# Altium integrated library Micron Memory DDR3 SDRAM.IntLib: 123 symbols (part 22 of 37)
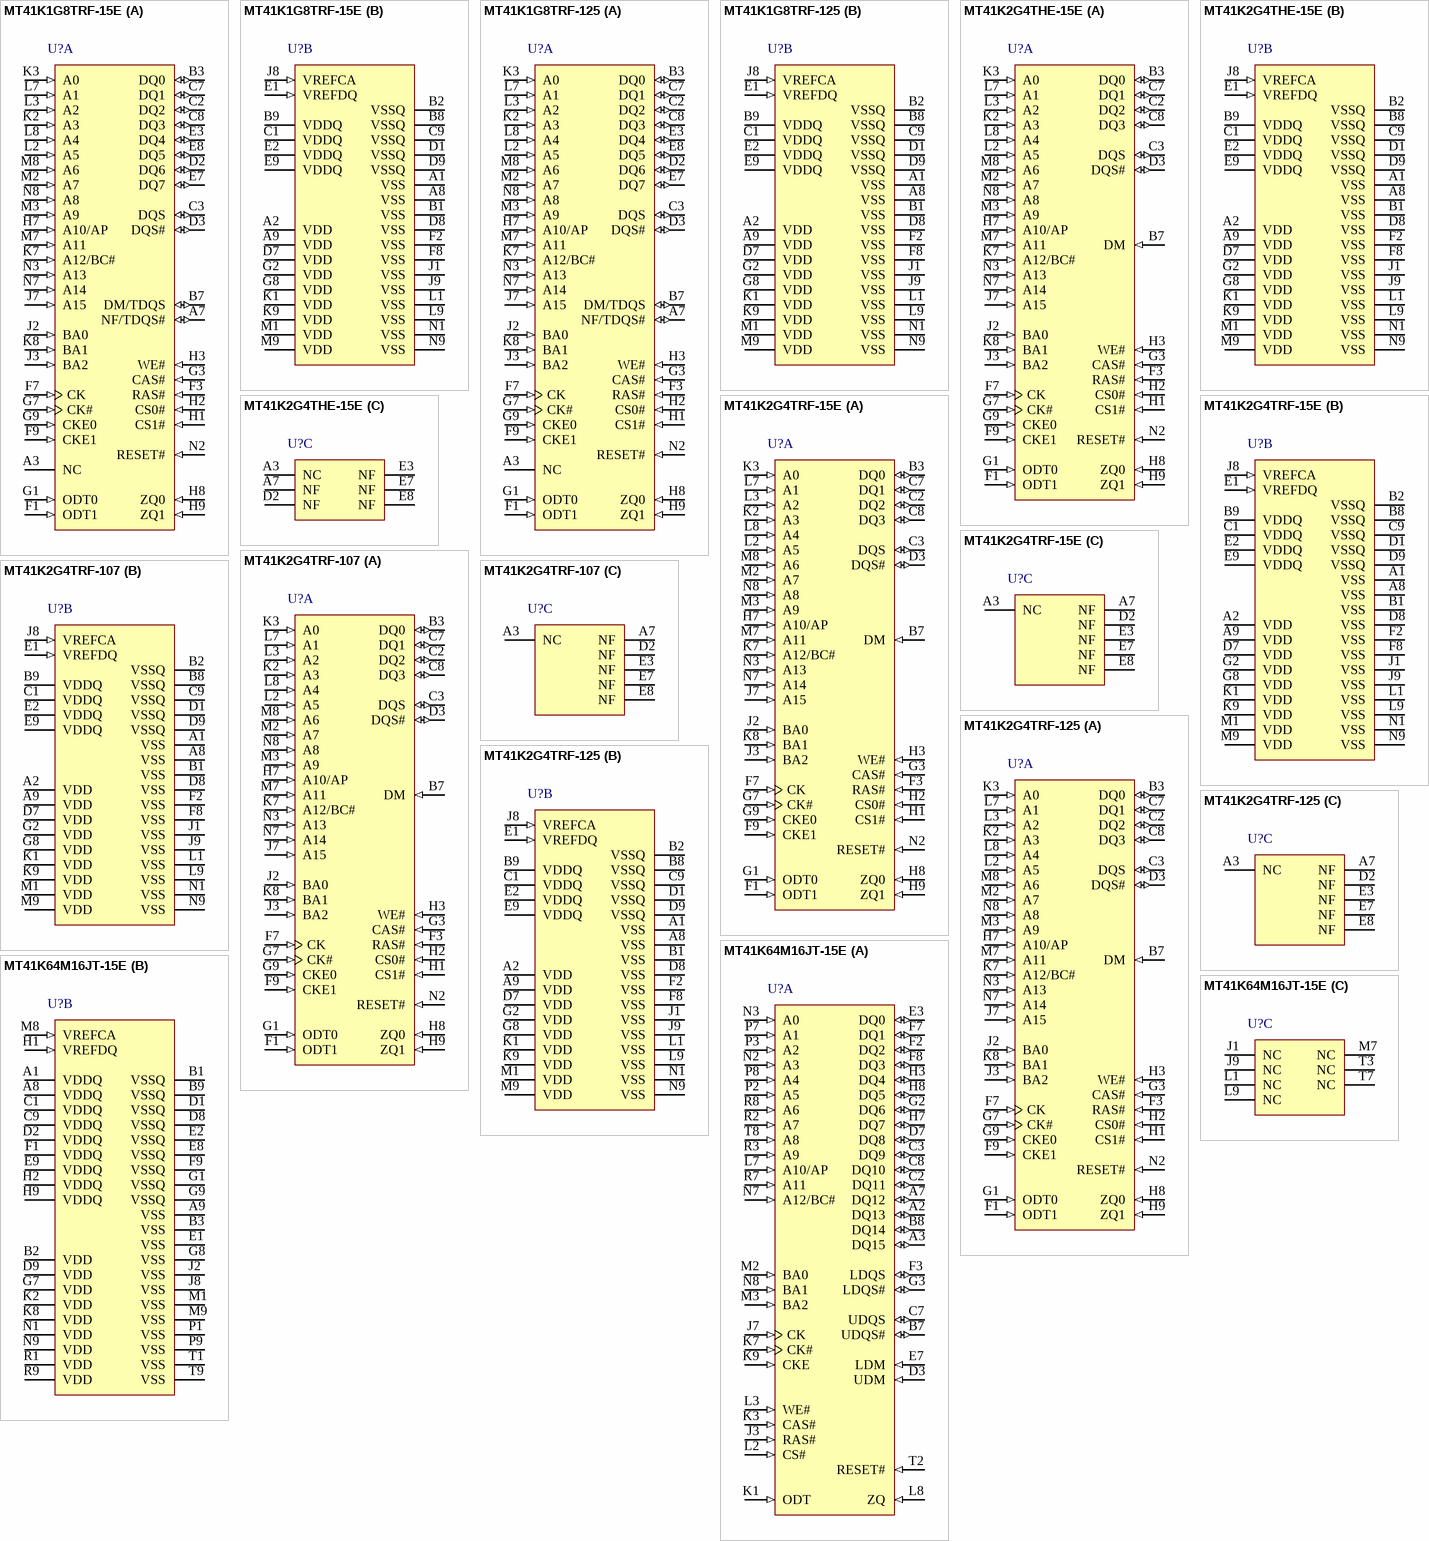
[diagram p39: symbols MT41K1G8TRF-15E to MT41K64M16JT-15E]

## MT41K2G4TRF-107
designator U?
8Gb DDR3-1866 SDRAM, 2Gb x 4, 1.071ns, 1.35V, 0 to 95 degC, 78-Ball FBGA, Pb-Free; Manufacturer: Micron; PartNumber: MT41K2G4TRF-107; CL: CL = 13; Clock Rate: 933 MHz; Op. Temp.: 0C to +95C; DatasheetVersion: Rev.B; PackageVersion: Rev.E; PackageReference: MICT-TRF-78; PackageDescription: 78-Ball Fine-Pitch Ball Grid Array, 11.5 x 9.5 mm, Pitch 0.8 mm; Cycle Time: 1.071ns; Data Rate: DDR3-1866; Density: 8Gb; Depth: 2Gb; Package: FBGA; Pin Count: 78-ball; RoHS: Yes; Voltage: 1.35V; Width: x4; Mounting Technology: Surface Mount; ComponentLink1Description: Manufacturer URL; ComponentLink1URL: http://www.micron.com/; ComponentLink2Description: Datasheet; ComponentLink2URL: http://www.micron.com/~/media/Documents/Products/Data%20Sheet/DRAM/DDR3L_8Gb_x4_x8_2CS_TwinDie_V70S_V80A.pdf; ComponentLink3Description: Package Specification; ComponentLink3URL: http://www.micron.com/~/media/Documents/Products/Data%20Sheet/DRAM/DDR3L_8Gb_x4_x8_2CS_TwinDie_V70S_V80A.pdf
footprint MICT-TRF-78 (BGA, 78-Balls, Body 11.5x9.5mm, Pitch 0.8mm)
part A pins: B3 DQ0 (io) "Data input/output: Bidirectional data bus for x4 configuration. DQ[3:0] are referenced to VREFDQ.", B7 DM (in) "Input data mask: DM is an input mask signal for write data. Input data is masked when DM is sampled HIGH, along with the input data, during a write access. Although the DM ball is input-only, the DM loading is designed to (See Datasheet)", C2 DQ2 (io) "Data input/output: Bidirectional data bus for x4 configuration. DQ[3:0] are referenced to VREFDQ.", C3 DQS (io) "Data strobe: DQS and DQS# are differential data strobes: Output with read data; edge aligned with read data; input with write data; center-aligned with write data.", C7 DQ1 (io) "Data input/output: Bidirectional data bus for x4 configuration. DQ[3:0] are referenced to VREFDQ.", C8 DQ3 (io) "Data input/output: Bidirectional data bus for x4 configuration. DQ[3:0] are referenced to VREFDQ.", D3 DQS# (io) "Data strobe: DQS and DQS# are differential data strobes: Output with read data; edge aligned with read data; input with write data; center-aligned with write data.", F1 ODT1 (in) "On-die termination: ODT enables (registered HIGH) and disables (registered LOW) termination resistance internal to the DDR3L SDRAM. When enabled in normal operation,ODT is only applied to each of the following balls: (See Datasheet)", F3 RAS# (in) "Command inputs: RAS#, CAS#, and WE# (along with CS#) define the command being entered and are referenced to VREFCA.", F7 CK (in) "Clock: CK and CK# are differential clock inputs. All command, address, and control input signals are sampled on the crossing of the positive edge of CK and the negative edge of CK#. Output data strobe (DQS, DQS#) is (See Datasheet)", F9 CKE1 (in) "Clock enable: CKE enables (registered HIGH) and disables (registered LOW) internal circuitry and clocks on the DRAM. The specific circuitry that is enabled/disabled is dependent upon the DDR3L SDRAM configuration and (See Datasheet)", G1 ODT0 (in) "On-die termination: ODT enables (registered HIGH) and disables (registered LOW) termination resistance internal to the DDR3L SDRAM. When enabled in normal operation,ODT is only applied to each of the following balls: (See Datasheet)", G3 CAS# (in) "Command inputs: RAS#, CAS#, and WE# (along with CS#) define the command being entered and are referenced to VREFCA.", G7 CK# (in) "Clock: CK and CK# are differential clock inputs. All command, address, and control input signals are sampled on the crossing of the positive edge of CK and the negative edge of CK#. Output data strobe (DQS, DQS#) is (See Datasheet)", G9 CKE0 (in) "Clock enable: CKE enables (registered HIGH) and disables (registered LOW) internal circuitry and clocks on the DRAM. The specific circuitry that is enabled/disabled is dependent upon the DDR3L SDRAM configuration and (See Datasheet)", H1 CS1# (in) "Chip select: CS# enables (registered LOW) and disables (registered HIGH) the command decoder. All commands are masked when CS# is registered HIGH. CS# provides for external rank selection on systems with multiple ranks. CS# (See Datasheet)", H2 CS0# (in) "Chip select: CS# enables (registered LOW) and disables (registered HIGH) the command decoder. All commands are masked when CS# is registered HIGH. CS# provides for external rank selection on systems with multiple ranks. CS# (See Datasheet)", H3 WE# (in) "Command inputs: RAS#, CAS#, and WE# (along with CS#) define the command being entered and are referenced to VREFCA.", H7 A10/AP (in) "Address inputs: Provide the row address for ACTIVATE commands, and the column address and auto precharge bit (A10) for READ/WRITE commands, to select one location out of the memory array in the respective bank. A10 sampled (See Datasheet)", H8 ZQ0 (in) "External reference ball for output drive calibration: This ball is tied to an external 240ohm resistor (RZQ), which is tied to VSSQ.", H9 ZQ1 (in) "External reference ball for output drive calibration: This ball is tied to an external 240ohm resistor (RZQ), which is tied to VSSQ.", J2 BA0 (in) "Bank address inputs: BA[2:0] define the bank to which an ACTIVATE, READ, WRITE, or PRECHARGE command is being applied. BA[2:0] define which mode register (MR0, MR1,MR2, or MR3) is loaded during the LOAD MODE command. BA[2:0] (See Datasheet)", J3 BA2 (in) "Bank address inputs: BA[2:0] define the bank to which an ACTIVATE, READ, WRITE, or PRECHARGE command is being applied. BA[2:0] define which mode register (MR0, MR1,MR2, or MR3) is loaded during the LOAD MODE command. BA[2:0] (See Datasheet)", J7 A15 (in) "Address inputs: Provide the row address for ACTIVATE commands, and the column address and auto precharge bit (A10) for READ/WRITE commands, to select one location out of the memory array in the respective bank. A10 sampled (See Datasheet)", K2 A3 (in) "Address inputs: Provide the row address for ACTIVATE commands, and the column address and auto precharge bit (A10) for READ/WRITE commands, to select one location out of the memory array in the respective bank. A10 sampled (See Datasheet)", K3 A0 (in) "Address inputs: Provide the row address for ACTIVATE commands, and the column address and auto precharge bit (A10) for READ/WRITE commands, to select one location out of the memory array in the respective bank. A10 sampled (See Datasheet)", K7 A12/BC# (in) "Address inputs: Provide the row address for ACTIVATE commands, and the column address and auto precharge bit (A10) for READ/WRITE commands, to select one location out of the memory array in the respective bank. A10 sampled (See Datasheet)", K8 BA1 (in) "Bank address inputs: BA[2:0] define the bank to which an ACTIVATE, READ, WRITE, or PRECHARGE command is being applied. BA[2:0] define which mode register (MR0, MR1,MR2, or MR3) is loaded during the LOAD MODE command. BA[2:0] (See Datasheet)", L2 A5 (in) "Address inputs: Provide the row address for ACTIVATE commands, and the column address and auto precharge bit (A10) for READ/WRITE commands, to select one location out of the memory array in the respective bank. A10 sampled (See Datasheet)", L3 A2 (in) "Address inputs: Provide the row address for ACTIVATE commands, and the column address and auto precharge bit (A10) for READ/WRITE commands, to select one location out of the memory array in the respective bank. A10 sampled (See Datasheet)", L7 A1 (in) "Address inputs: Provide the row address for ACTIVATE commands, and the column address and auto precharge bit (A10) for READ/WRITE commands, to select one location out of the memory array in the respective bank. A10 sampled (See Datasheet)", L8 A4 (in) "Address inputs: Provide the row address for ACTIVATE commands, and the column address and auto precharge bit (A10) for READ/WRITE commands, to select one location out of the memory array in the respective bank. A10 sampled (See Datasheet)", M2 A7 (in) "Address inputs: Provide the row address for ACTIVATE commands, and the column address and auto precharge bit (A10) for READ/WRITE commands, to select one location out of the memory array in the respective bank. A10 sampled (See Datasheet)", M3 A9 (in) "Address inputs: Provide the row address for ACTIVATE commands, and the column address and auto precharge bit (A10) for READ/WRITE commands, to select one location out of the memory array in the respective bank. A10 sampled (See Datasheet)", M7 A11 (in) "Address inputs: Provide the row address for ACTIVATE commands, and the column address and auto precharge bit (A10) for READ/WRITE commands, to select one location out of the memory array in the respective bank. A10 sampled (See Datasheet)", M8 A6 (in) "Address inputs: Provide the row address for ACTIVATE commands, and the column address and auto precharge bit (A10) for READ/WRITE commands, to select one location out of the memory array in the respective bank. A10 sampled (See Datasheet)", N2 RESET# (in) "Reset: RESET# is an active LOW CMOS input referenced to VSS. The RESET# input receiver is a CMOS input defined as a rail-to-rail signal with DC HIGH >= 0.8 x VDDQ and DC LOW =<0.2 x VDDQ. RESET# assertion and desertion are (See Datasheet)", N3 A13 (in) "Address inputs: Provide the row address for ACTIVATE commands, and the column address and auto precharge bit (A10) for READ/WRITE commands, to select one location out of the memory array in the respective bank. A10 sampled (See Datasheet)", N7 A14 (in) "Address inputs: Provide the row address for ACTIVATE commands, and the column address and auto precharge bit (A10) for READ/WRITE commands, to select one location out of the memory array in the respective bank. A10 sampled (See Datasheet)", N8 A8 (in) "Address inputs: Provide the row address for ACTIVATE commands, and the column address and auto precharge bit (A10) for READ/WRITE commands, to select one location out of the memory array in the respective bank. A10 sampled (See Datasheet)"
part B pins: A1 VSS (power) "Ground.", A2 VDD (power) "Power supply: 1.35V (1.283V to 1.45V operational; compatible with 1.5V operation)", A8 VSS (power) "Ground.", A9 VDD (power) "Power supply: 1.35V (1.283V to 1.45V operational; compatible with 1.5V operation)", B1 VSS (power) "Ground.", B2 VSSQ (power) "DQ ground: Isolated on the device for improved noise immunity.", B8 VSSQ (power) "DQ ground: Isolated on the device for improved noise immunity.", B9 VDDQ (power) "DQ power supply: 1.35V (1.283V to 1.45V operational; compatible with 1.5V operation).Isolated on the device for improved noise immunity.", C1 VDDQ (power) "DQ power supply: 1.35V (1.283V to 1.45V operational; compatible with 1.5V operation).Isolated on the device for improved noise immunity.", C9 VSSQ (power) "DQ ground: Isolated on the device for improved noise immunity.", D1 VSSQ (power) "DQ ground: Isolated on the device for improved noise immunity.", D7 VDD (power) "Power supply: 1.35V (1.283V to 1.45V operational; compatible with 1.5V operation)", D8 VSS (power) "Ground.", D9 VSSQ (power) "DQ ground: Isolated on the device for improved noise immunity.", E1 VREFDQ (in) "Reference voltage for data: VREFDQ must be maintained at all times (including self refresh) for proper device operation.", E2 VDDQ (power) "DQ power supply: 1.35V (1.283V to 1.45V operational; compatible with 1.5V operation).Isolated on the device for improved noise immunity.", E9 VDDQ (power) "DQ power supply: 1.35V (1.283V to 1.45V operational; compatible with 1.5V operation).Isolated on the device for improved noise immunity.", F2 VSS (power) "Ground.", F8 VSS (power) "Ground.", G2 VDD (power) "Power supply: 1.35V (1.283V to 1.45V operational; compatible with 1.5V operation)", G8 VDD (power) "Power supply: 1.35V (1.283V to 1.45V operational; compatible with 1.5V operation)", J1 VSS (power) "Ground.", J8 VREFCA (in) "Reference voltage for control, command, and address: VREFCA must be maintained at all times (including self refresh) for proper device operation.", J9 VSS (power) "Ground.", K1 VDD (power) "Power supply: 1.35V (1.283V to 1.45V operational; compatible with 1.5V operation)", K9 VDD (power) "Power supply: 1.35V (1.283V to 1.45V operational; compatible with 1.5V operation)", L1 VSS (power) "Ground.", L9 VSS (power) "Ground.", M1 VDD (power) "Power supply: 1.35V (1.283V to 1.45V operational; compatible with 1.5V operation)", M9 VDD (power) "Power supply: 1.35V (1.283V to 1.45V operational; compatible with 1.5V operation)", N1 VSS (power) "Ground.", N9 VSS (power) "Ground."
part C pins: A3 NC "No connect: These balls should be left unconnected (the ball has no connection to the DRAM or to other balls).", A7 NF "No function: When configured as a x4 device, these balls are NF. When configured as a x8 device, these balls are defined as TDQS#, DQ[7:4].", D2 NF "No function: When configured as a x4 device, these balls are NF. When configured as a x8 device, these balls are defined as TDQS#, DQ[7:4].", E3 NF "No function: When configured as a x4 device, these balls are NF. When configured as a x8 device, these balls are defined as TDQS#, DQ[7:4].", E7 NF "No function: When configured as a x4 device, these balls are NF. When configured as a x8 device, these balls are defined as TDQS#, DQ[7:4].", E8 NF "No function: When configured as a x4 device, these balls are NF. When configured as a x8 device, these balls are defined as TDQS#, DQ[7:4]."

## MT41K2G4TRF-125
designator U?
8Gb DDR3-1600 SDRAM, 2Gb x 4, 1.25ns, 1.35V, 0 to 95 degC, 78-Ball FBGA, Pb-Free; Manufacturer: Micron; PartNumber: MT41K2G4TRF-125; CL: CL = 11; Clock Rate: 800 MHz; Op. Temp.: 0C to +95C; DatasheetVersion: Rev.B; PackageVersion: Rev.E; PackageReference: MICT-TRF-78; PackageDescription: 78-Ball Fine-Pitch Ball Grid Array, 11.5 x 9.5 mm, Pitch 0.8 mm; Cycle Time: 1.25ns; Data Rate: DDR3-1600; Density: 8Gb; Depth: 2Gb; Package: FBGA; Pin Count: 78-ball; RoHS: Yes; Voltage: 1.35V; Width: x4; Mounting Technology: Surface Mount; ComponentLink1Description: Manufacturer URL; ComponentLink1URL: http://www.micron.com/; ComponentLink2Description: Datasheet; ComponentLink2URL: http://www.micron.com/~/media/Documents/Products/Data%20Sheet/DRAM/DDR3L_8Gb_x4_x8_2CS_TwinDie_V70S_V80A.pdf; ComponentLink3Description: Package Specification; ComponentLink3URL: http://www.micron.com/~/media/Documents/Products/Data%20Sheet/DRAM/DDR3L_8Gb_x4_x8_2CS_TwinDie_V70S_V80A.pdf
footprint MICT-TRF-78 (BGA, 78-Balls, Body 11.5x9.5mm, Pitch 0.8mm)
part A pins: B3 DQ0 (io) "Data input/output: Bidirectional data bus for x4 configuration. DQ[3:0] are referenced to VREFDQ.", B7 DM (in) "Input data mask: DM is an input mask signal for write data. Input data is masked when DM is sampled HIGH, along with the input data, during a write access. Although the DM ball is input-only, the DM loading is designed to (See Datasheet)", C2 DQ2 (io) "Data input/output: Bidirectional data bus for x4 configuration. DQ[3:0] are referenced to VREFDQ.", C3 DQS (io) "Data strobe: DQS and DQS# are differential data strobes: Output with read data; edge aligned with read data; input with write data; center-aligned with write data.", C7 DQ1 (io) "Data input/output: Bidirectional data bus for x4 configuration. DQ[3:0] are referenced to VREFDQ.", C8 DQ3 (io) "Data input/output: Bidirectional data bus for x4 configuration. DQ[3:0] are referenced to VREFDQ.", D3 DQS# (io) "Data strobe: DQS and DQS# are differential data strobes: Output with read data; edge aligned with read data; input with write data; center-aligned with write data.", F1 ODT1 (in) "On-die termination: ODT enables (registered HIGH) and disables (registered LOW) termination resistance internal to the DDR3L SDRAM. When enabled in normal operation,ODT is only applied to each of the following balls: (See Datasheet)", F3 RAS# (in) "Command inputs: RAS#, CAS#, and WE# (along with CS#) define the command being entered and are referenced to VREFCA.", F7 CK (in) "Clock: CK and CK# are differential clock inputs. All command, address, and control input signals are sampled on the crossing of the positive edge of CK and the negative edge of CK#. Output data strobe (DQS, DQS#) is (See Datasheet)", F9 CKE1 (in) "Clock enable: CKE enables (registered HIGH) and disables (registered LOW) internal circuitry and clocks on the DRAM. The specific circuitry that is enabled/disabled is dependent upon the DDR3L SDRAM configuration and (See Datasheet)", G1 ODT0 (in) "On-die termination: ODT enables (registered HIGH) and disables (registered LOW) termination resistance internal to the DDR3L SDRAM. When enabled in normal operation,ODT is only applied to each of the following balls: (See Datasheet)", G3 CAS# (in) "Command inputs: RAS#, CAS#, and WE# (along with CS#) define the command being entered and are referenced to VREFCA.", G7 CK# (in) "Clock: CK and CK# are differential clock inputs. All command, address, and control input signals are sampled on the crossing of the positive edge of CK and the negative edge of CK#. Output data strobe (DQS, DQS#) is (See Datasheet)", G9 CKE0 (in) "Clock enable: CKE enables (registered HIGH) and disables (registered LOW) internal circuitry and clocks on the DRAM. The specific circuitry that is enabled/disabled is dependent upon the DDR3L SDRAM configuration and (See Datasheet)", H1 CS1# (in) "Chip select: CS# enables (registered LOW) and disables (registered HIGH) the command decoder. All commands are masked when CS# is registered HIGH. CS# provides for external rank selection on systems with multiple ranks. CS# (See Datasheet)", H2 CS0# (in) "Chip select: CS# enables (registered LOW) and disables (registered HIGH) the command decoder. All commands are masked when CS# is registered HIGH. CS# provides for external rank selection on systems with multiple ranks. CS# (See Datasheet)", H3 WE# (in) "Command inputs: RAS#, CAS#, and WE# (along with CS#) define the command being entered and are referenced to VREFCA.", H7 A10/AP (in) "Address inputs: Provide the row address for ACTIVATE commands, and the column address and auto precharge bit (A10) for READ/WRITE commands, to select one location out of the memory array in the respective bank. A10 sampled (See Datasheet)", H8 ZQ0 (in) "External reference ball for output drive calibration: This ball is tied to an external 240ohm resistor (RZQ), which is tied to VSSQ.", H9 ZQ1 (in) "External reference ball for output drive calibration: This ball is tied to an external 240ohm resistor (RZQ), which is tied to VSSQ.", J2 BA0 (in) "Bank address inputs: BA[2:0] define the bank to which an ACTIVATE, READ, WRITE, or PRECHARGE command is being applied. BA[2:0] define which mode register (MR0, MR1,MR2, or MR3) is loaded during the LOAD MODE command. BA[2:0] (See Datasheet)", J3 BA2 (in) "Bank address inputs: BA[2:0] define the bank to which an ACTIVATE, READ, WRITE, or PRECHARGE command is being applied. BA[2:0] define which mode register (MR0, MR1,MR2, or MR3) is loaded during the LOAD MODE command. BA[2:0] (See Datasheet)", J7 A15 (in) "Address inputs: Provide the row address for ACTIVATE commands, and the column address and auto precharge bit (A10) for READ/WRITE commands, to select one location out of the memory array in the respective bank. A10 sampled (See Datasheet)", K2 A3 (in) "Address inputs: Provide the row address for ACTIVATE commands, and the column address and auto precharge bit (A10) for READ/WRITE commands, to select one location out of the memory array in the respective bank. A10 sampled (See Datasheet)", K3 A0 (in) "Address inputs: Provide the row address for ACTIVATE commands, and the column address and auto precharge bit (A10) for READ/WRITE commands, to select one location out of the memory array in the respective bank. A10 sampled (See Datasheet)", K7 A12/BC# (in) "Address inputs: Provide the row address for ACTIVATE commands, and the column address and auto precharge bit (A10) for READ/WRITE commands, to select one location out of the memory array in the respective bank. A10 sampled (See Datasheet)", K8 BA1 (in) "Bank address inputs: BA[2:0] define the bank to which an ACTIVATE, READ, WRITE, or PRECHARGE command is being applied. BA[2:0] define which mode register (MR0, MR1,MR2, or MR3) is loaded during the LOAD MODE command. BA[2:0] (See Datasheet)", L2 A5 (in) "Address inputs: Provide the row address for ACTIVATE commands, and the column address and auto precharge bit (A10) for READ/WRITE commands, to select one location out of the memory array in the respective bank. A10 sampled (See Datasheet)", L3 A2 (in) "Address inputs: Provide the row address for ACTIVATE commands, and the column address and auto precharge bit (A10) for READ/WRITE commands, to select one location out of the memory array in the respective bank. A10 sampled (See Datasheet)", L7 A1 (in) "Address inputs: Provide the row address for ACTIVATE commands, and the column address and auto precharge bit (A10) for READ/WRITE commands, to select one location out of the memory array in the respective bank. A10 sampled (See Datasheet)", L8 A4 (in) "Address inputs: Provide the row address for ACTIVATE commands, and the column address and auto precharge bit (A10) for READ/WRITE commands, to select one location out of the memory array in the respective bank. A10 sampled (See Datasheet)", M2 A7 (in) "Address inputs: Provide the row address for ACTIVATE commands, and the column address and auto precharge bit (A10) for READ/WRITE commands, to select one location out of the memory array in the respective bank. A10 sampled (See Datasheet)", M3 A9 (in) "Address inputs: Provide the row address for ACTIVATE commands, and the column address and auto precharge bit (A10) for READ/WRITE commands, to select one location out of the memory array in the respective bank. A10 sampled (See Datasheet)", M7 A11 (in) "Address inputs: Provide the row address for ACTIVATE commands, and the column address and auto precharge bit (A10) for READ/WRITE commands, to select one location out of the memory array in the respective bank. A10 sampled (See Datasheet)", M8 A6 (in) "Address inputs: Provide the row address for ACTIVATE commands, and the column address and auto precharge bit (A10) for READ/WRITE commands, to select one location out of the memory array in the respective bank. A10 sampled (See Datasheet)", N2 RESET# (in) "Reset: RESET# is an active LOW CMOS input referenced to VSS. The RESET# input receiver is a CMOS input defined as a rail-to-rail signal with DC HIGH >= 0.8 x VDDQ and DC LOW =<0.2 x VDDQ. RESET# assertion and desertion are (See Datasheet)", N3 A13 (in) "Address inputs: Provide the row address for ACTIVATE commands, and the column address and auto precharge bit (A10) for READ/WRITE commands, to select one location out of the memory array in the respective bank. A10 sampled (See Datasheet)", N7 A14 (in) "Address inputs: Provide the row address for ACTIVATE commands, and the column address and auto precharge bit (A10) for READ/WRITE commands, to select one location out of the memory array in the respective bank. A10 sampled (See Datasheet)", N8 A8 (in) "Address inputs: Provide the row address for ACTIVATE commands, and the column address and auto precharge bit (A10) for READ/WRITE commands, to select one location out of the memory array in the respective bank. A10 sampled (See Datasheet)"
part B pins: A1 VSS (power) "Ground.", A2 VDD (power) "Power supply: 1.35V (1.283V to 1.45V operational; compatible with 1.5V operation)", A8 VSS (power) "Ground.", A9 VDD (power) "Power supply: 1.35V (1.283V to 1.45V operational; compatible with 1.5V operation)", B1 VSS (power) "Ground.", B2 VSSQ (power) "DQ ground: Isolated on the device for improved noise immunity.", B8 VSSQ (power) "DQ ground: Isolated on the device for improved noise immunity.", B9 VDDQ (power) "DQ power supply: 1.35V (1.283V to 1.45V operational; compatible with 1.5V operation).Isolated on the device for improved noise immunity.", C1 VDDQ (power) "DQ power supply: 1.35V (1.283V to 1.45V operational; compatible with 1.5V operation).Isolated on the device for improved noise immunity.", C9 VSSQ (power) "DQ ground: Isolated on the device for improved noise immunity.", D1 VSSQ (power) "DQ ground: Isolated on the device for improved noise immunity.", D7 VDD (power) "Power supply: 1.35V (1.283V to 1.45V operational; compatible with 1.5V operation)", D8 VSS (power) "Ground.", D9 VSSQ (power) "DQ ground: Isolated on the device for improved noise immunity.", E1 VREFDQ (in) "Reference voltage for data: VREFDQ must be maintained at all times (including self refresh) for proper device operation.", E2 VDDQ (power) "DQ power supply: 1.35V (1.283V to 1.45V operational; compatible with 1.5V operation).Isolated on the device for improved noise immunity.", E9 VDDQ (power) "DQ power supply: 1.35V (1.283V to 1.45V operational; compatible with 1.5V operation).Isolated on the device for improved noise immunity.", F2 VSS (power) "Ground.", F8 VSS (power) "Ground.", G2 VDD (power) "Power supply: 1.35V (1.283V to 1.45V operational; compatible with 1.5V operation)", G8 VDD (power) "Power supply: 1.35V (1.283V to 1.45V operational; compatible with 1.5V operation)", J1 VSS (power) "Ground.", J8 VREFCA (in) "Reference voltage for control, command, and address: VREFCA must be maintained at all times (including self refresh) for proper device operation.", J9 VSS (power) "Ground.", K1 VDD (power) "Power supply: 1.35V (1.283V to 1.45V operational; compatible with 1.5V operation)", K9 VDD (power) "Power supply: 1.35V (1.283V to 1.45V operational; compatible with 1.5V operation)", L1 VSS (power) "Ground.", L9 VSS (power) "Ground.", M1 VDD (power) "Power supply: 1.35V (1.283V to 1.45V operational; compatible with 1.5V operation)", M9 VDD (power) "Power supply: 1.35V (1.283V to 1.45V operational; compatible with 1.5V operation)", N1 VSS (power) "Ground.", N9 VSS (power) "Ground."
part C pins: A3 NC "No connect: These balls should be left unconnected (the ball has no connection to the DRAM or to other balls).", A7 NF "No function: When configured as a x4 device, these balls are NF. When configured as a x8 device, these balls are defined as TDQS#, DQ[7:4].", D2 NF "No function: When configured as a x4 device, these balls are NF. When configured as a x8 device, these balls are defined as TDQS#, DQ[7:4].", E3 NF "No function: When configured as a x4 device, these balls are NF. When configured as a x8 device, these balls are defined as TDQS#, DQ[7:4].", E7 NF "No function: When configured as a x4 device, these balls are NF. When configured as a x8 device, these balls are defined as TDQS#, DQ[7:4].", E8 NF "No function: When configured as a x4 device, these balls are NF. When configured as a x8 device, these balls are defined as TDQS#, DQ[7:4]."

## MT41K64M16JT-15E
designator U?
1Gb DDR3-1333 SDRAM, 64Mb x 16, 1.5ns, 1.35V, 0 to 95 degC, 96-Ball FBGA, Pb-Free; Manufacturer: Micron; PartNumber: MT41K64M16JT-15E; CL: CL = 9; Clock Rate: 667 MHz; Op. Temp.: 0C to +95C; DatasheetVersion: Rev.F; PackageVersion: Rev.G; PackageReference: MICT-JT-96; PackageDescription: 96-Ball Fine-Pitch Ball Grid Array, 14 x 8 mm, Pitch 0.8 mm; Cycle Time: 1.5ns; Data Rate: DDR3-1333; Density: 1Gb; Depth: 64Mb; Package: FBGA; Pin Count: 96-ball; RoHS: Yes; Voltage: 1.35V; Width: x16; Mounting Technology: Surface Mount; ComponentLink1Description: Manufacturer URL; ComponentLink1URL: http://www.micron.com/; ComponentLink2Description: Datasheet; ComponentLink2URL: http://www.micron.com/~/media/Documents/Products/Data%20Sheet/DRAM/2Gb_DDR3_SDRAM.pdf; ComponentLink3Description: Package Specification; ComponentLink3URL: http://www.micron.com/~/media/Documents/Products/Data%20Sheet/DRAM/2Gb_DDR3_SDRAM.pdf
footprint MICT-JT-96 (BGA, 96-Balls, Body 14x8mm, Pitch 0.8mm)
part A pins: A2 DQ13 (io) "Data input/output: Upper byte of bidirectional data bus for the x16 configuration. DQ[15:8] are referenced to VREFDQ.", A3 DQ15 (io) "Data input/output: Upper byte of bidirectional data bus for the x16 configuration. DQ[15:8] are referenced to VREFDQ.", A7 DQ12 (io) "Data input/output: Upper byte of bidirectional data bus for the x16 configuration. DQ[15:8] are referenced to VREFDQ.", B7 UDQS# (io) "Upper byte data strobe: Output with read data. Edge-aligned with read data. Input with write data. DQS is center-aligned to write data.", B8 DQ14 (io) "Data input/output: Upper byte of bidirectional data bus for the x16 configuration. DQ[15:8] are referenced to VREFDQ.", C2 DQ11 (io) "Data input/output: Upper byte of bidirectional data bus for the x16 configuration. DQ[15:8] are referenced to VREFDQ.", C3 DQ9 (io) "Data input/output: Upper byte of bidirectional data bus for the x16 configuration. DQ[15:8] are referenced to VREFDQ.", C7 UDQS (io) "Upper byte data strobe: Output with read data. Edge-aligned with read data. Input with write data. DQS is center-aligned to write data.", C8 DQ10 (io) "Data input/output: Upper byte of bidirectional data bus for the x16 configuration. DQ[15:8] are referenced to VREFDQ.", D3 UDM (in) "Input data mask: UDM is an upper-byte, input mask signal for write data. Upperbyte input data is masked when UDM is sampled HIGH along with that input data during a WRITE access. Although the UDM ball is input-only, the UDM (See Datasheet)", D7 DQ8 (io) "Data input/output: Upper byte of bidirectional data bus for the x16 configuration. DQ[15:8] are referenced to VREFDQ.", E3 DQ0 (io) "Data input/output: Lower byte of bidirectional data bus for the x16 configuration. DQ[7:0] are referenced to VREFDQ.", E7 LDM (in) "Input data mask: LDM is a lower byte, input mask signal for write data. Lower-byte input data is masked when LDM is sampled HIGH along with the input data during a write access. Although the LDM ball is input-only, the LDM (See Datasheet)", F2 DQ2 (io) "Data input/output: Lower byte of bidirectional data bus for the x16 configuration. DQ[7:0] are referenced to VREFDQ.", F3 LDQS (io) "Lower byte data strobe: Output with read data. Edge-aligned with read data. Input with write data. Center-aligned to write data.", F7 DQ1 (io) "Data input/output: Lower byte of bidirectional data bus for the x16 configuration. DQ[7:0] are referenced to VREFDQ.", F8 DQ3 (io) "Data input/output: Lower byte of bidirectional data bus for the x16 configuration. DQ[7:0] are referenced to VREFDQ.", G2 DQ6 (io) "Data input/output: Lower byte of bidirectional data bus for the x16 configuration. DQ[7:0] are referenced to VREFDQ.", G3 LDQS# (io) "Lower byte data strobe: Output with read data. Edge-aligned with read data. Input with write data. Center-aligned to write data.", H3 DQ4 (io) "Data input/output: Lower byte of bidirectional data bus for the x16 configuration. DQ[7:0] are referenced to VREFDQ.", H7 DQ7 (io) "Data input/output: Lower byte of bidirectional data bus for the x16 configuration. DQ[7:0] are referenced to VREFDQ.", H8 DQ5 (io) "Data input/output: Lower byte of bidirectional data bus for the x16 configuration. DQ[7:0] are referenced to VREFDQ.", J3 RAS# (in) "Command input: RAS#, CAS#, and WE# (along with CS#) define the command being entered and are referenced to VREFCA.", J7 CK (in) "Clock: CK and CK# are differential clock inputs. All address and control input signals are sampled on the crossing of the positive edge of CK and the negative edge of CK#. Output data strobe (DQS, DQS#) is referenced to the (See Datasheet)", K1 ODT (in) "On-die termination: ODT enables (registered HIGH) and disables (registered LOW) termination resistance internal to the DDR3 SDRAM. When enabled in normal operation, ODT is only applied to each of the following balls: (See Datasheet)", K3 CAS# (in) "Command input: RAS#, CAS#, and WE# (along with CS#) define the command being entered and are referenced to VREFCA.", K7 CK# (in) "Clock: CK and CK# are differential clock inputs. All address and control input signals are sampled on the crossing of the positive edge of CK and the negative edge of CK#. Output data strobe (DQS, DQS#) is referenced to the (See Datasheet)", K9 CKE (in) "Clock enable: CKE enables (registered HIGH) and disables (registered LOW) internal circuitry and clocks on the DRAM. The specific circuitry that is enabled/disabled is dependent upon the DDR3 SDRAM configuration and (See Datasheet)", L2 CS# (in) "Chip select: CS# enables (registered LOW) and disables (registered HIGH) the command decoder. All commands are masked when CS# is registered HIGH. CS# provides for external rank selection on systems with multiple ranks. CS# (See Datasheet)", L3 WE# (in) "Command input: RAS#, CAS#, and WE# (along with CS#) define the command being entered and are referenced to VREFCA.", L7 A10/AP (in) "Address input: Provide the row address for ACTIVATE commands, and the column address and auto precharge bit (A10) for READ/WRITE commands, to select one location out of the memory array in the respective bank. A10 sampled (See Datasheet)", L8 ZQ (in) "External reference ball for output drive calibration: This ball is tied to an external 240ohm resistor (RZQ), which is tied to VSSQ.", M2 BA0 (in) "Bank address input: BA[2:0] define to which bank an ACTIVATE, READ, WRITE, or PRECHARGE command is being applied. BA[2:0] define which mode register (MR0, MR1, MR2, or MR3) is loaded during the LOAD MODE command. BA[2:0] are (See Datasheet)", M3 BA2 (in) "Bank address input: BA[2:0] define to which bank an ACTIVATE, READ, WRITE, or PRECHARGE command is being applied. BA[2:0] define which mode register (MR0, MR1, MR2, or MR3) is loaded during the LOAD MODE command. BA[2:0] are (See Datasheet)", N2 A3 (in) "Address input: Provide the row address for ACTIVATE commands, and the column address and auto precharge bit (A10) for READ/WRITE commands, to select one location out of the memory array in the respective bank. A10 sampled (See Datasheet)", N3 A0 (in) "Address input: Provide the row address for ACTIVATE commands, and the column address and auto precharge bit (A10) for READ/WRITE commands, to select one location out of the memory array in the respective bank. A10 sampled (See Datasheet)", N7 A12/BC# (in) "Address input: Provide the row address for ACTIVATE commands, and the column address and auto precharge bit (A10) for READ/WRITE commands, to select one location out of the memory array in the respective bank. A10 sampled (See Datasheet)", N8 BA1 (in) "Address input: Provide the row address for ACTIVATE commands, and the column address and auto precharge bit (A10) for READ/WRITE commands, to select one location out of the memory array in the respective bank. A10 sampled (See Datasheet)", P2 A5 (in) "Address input: Provide the row address for ACTIVATE commands, and the column address and auto precharge bit (A10) for READ/WRITE commands, to select one location out of the memory array in the respective bank. A10 sampled (See Datasheet)", P3 A2 (in) "Address input: Provide the row address for ACTIVATE commands, and the column address and auto precharge bit (A10) for READ/WRITE commands, to select one location out of the memory array in the respective bank. A10 sampled (See Datasheet)", P7 A1 (in) "Address input: Provide the row address for ACTIVATE commands, and the column address and auto precharge bit (A10) for READ/WRITE commands, to select one location out of the memory array in the respective bank. A10 sampled (See Datasheet)", P8 A4 (in) "Address input: Provide the row address for ACTIVATE commands, and the column address and auto precharge bit (A10) for READ/WRITE commands, to select one location out of the memory array in the respective bank. A10 sampled (See Datasheet)", R2 A7 (in) "Address input: Provide the row address for ACTIVATE commands, and the column address and auto precharge bit (A10) for READ/WRITE commands, to select one location out of the memory array in the respective bank. A10 sampled (See Datasheet)", R3 A9 (in) "Address input: Provide the row address for ACTIVATE commands, and the column address and auto precharge bit (A10) for READ/WRITE commands, to select one location out of the memory array in the respective bank. A10 sampled (See Datasheet)", R7 A11 (in) "Address input: Provide the row address for ACTIVATE commands, and the column address and auto precharge bit (A10) for READ/WRITE commands, to select one location out of the memory array in the respective bank. A10 sampled (See Datasheet)", R8 A6 (in) "Address input: Provide the row address for ACTIVATE commands, and the column address and auto precharge bit (A10) for READ/WRITE commands, to select one location out of the memory array in the respective bank. A10 sampled (See Datasheet)", T2 RESET# (in) "Reset: RESET# is an active LOW CMOS input referenced to VSS. The RESET# input receiver is a CMOS input defined as a rail-to-rail signal with DC HIGH >= 0.8 x VDD and DC LOW =< 0.2 x VDDQ. RESET# assertion and de-assertion (See Datasheet)", T8 A8 (in) "Address input: Provide the row address for ACTIVATE commands, and the column address and auto precharge bit (A10) for READ/WRITE commands, to select one location out of the memory array in the respective bank. A10 sampled (See Datasheet)"
part B pins: A1 VDDQ (power) "DQ power supply: 1.35V, 1.2825V to 1.45V.", A8 VDDQ (power) "DQ power supply: 1.35V, 1.2825V to 1.45V.", A9 VSS (power) "Ground.", B1 VSSQ (power) "DQ ground: Isolated on the device for improved noise immunity.", B2 VDD (power) "Power supply: 1.35V, 1.2825V to 1.45V.", B3 VSS (power) "Ground.", B9 VSSQ (power) "DQ ground: Isolated on the device for improved noise immunity.", C1 VDDQ (power) "DQ power supply: 1.35V, 1.2825V to 1.45V.", C9 VDDQ (power) "DQ power supply: 1.35V, 1.2825V to 1.45V.", D1 VSSQ (power) "DQ ground: Isolated on the device for improved noise immunity.", D2 VDDQ (power) "DQ power supply: 1.35V, 1.2825V to 1.45V.", D8 VSSQ (power) "DQ ground: Isolated on the device for improved noise immunity.", D9 VDD (power) "Power supply: 1.35V, 1.2825V to 1.45V.", E1 VSS (power) "Ground.", E2 VSSQ (power) "DQ ground: Isolated on the device for improved noise immunity.", E8 VSSQ (power) "DQ ground: Isolated on the device for improved noise immunity.", E9 VDDQ (power) "DQ power supply: 1.35V, 1.2825V to 1.45V.", F1 VDDQ (power) "DQ power supply: 1.35V, 1.2825V to 1.45V.", F9 VSSQ (power) "DQ ground: Isolated on the device for improved noise immunity.", G1 VSSQ (power) "DQ ground: Isolated on the device for improved noise immunity.", G7 VDD (power) "Power supply: 1.35V, 1.2825V to 1.45V.", G8 VSS (power) "Ground.", G9 VSSQ (power) "DQ ground: Isolated on the device for improved noise immunity.", H1 VREFDQ (in) "Reference voltage for data: VREFDQ must be maintained at all times (excluding self refresh) for proper device operation.", H2 VDDQ (power) "DQ power supply: 1.35V, 1.2825V to 1.45V.", H9 VDDQ (power) "DQ power supply: 1.35V, 1.2825V to 1.45V.", J2 VSS (power) "Ground.", J8 VSS (power) "Ground.", K2 VDD (power) "Power supply: 1.35V, 1.2825V to 1.45V.", K8 VDD (power) "Power supply: 1.35V, 1.2825V to 1.45V.", M1 VSS (power) "Ground.", M8 VREFCA (in) "Reference voltage for control, command, and address: VREFCA must be maintained at all times (including self refresh) for proper device operation.", M9 VSS (power) "Ground.", N1 VDD (power) "Power supply: 1.35V, 1.2825V to 1.45V.", N9 VDD (power) "Power supply: 1.35V, 1.2825V to 1.45V.", P1 VSS (power) "Ground.", P9 VSS (power) "Ground.", R1 VDD (power) "Power supply: 1.35V, 1.2825V to 1.45V.", R9 VDD (power) "Power supply: 1.35V, 1.2825V to 1.45V.", T1 VSS (power) "Ground.", T9 VSS (power) "Ground."
part C pins: J1 NC "No connect: These balls should be left unconnected (the ball has no connection to the DRAM or to other balls).", J9 NC "No connect: These balls should be left unconnected (the ball has no connection to the DRAM or to other balls).", L1 NC "No connect: These balls should be left unconnected (the ball has no connection to the DRAM or to other balls).", L9 NC "No connect: These balls should be left unconnected (the ball has no connection to the DRAM or to other balls).", M7 NC "No connect: These balls should be left unconnected (the ball has no connection to the DRAM or to other balls).", T3 NC "No connect: These balls should be left unconnected (the ball has no connection to the DRAM or to other balls).", T7 NC "No connect: These balls should be left unconnected (the ball has no connection to the DRAM or to other balls)."

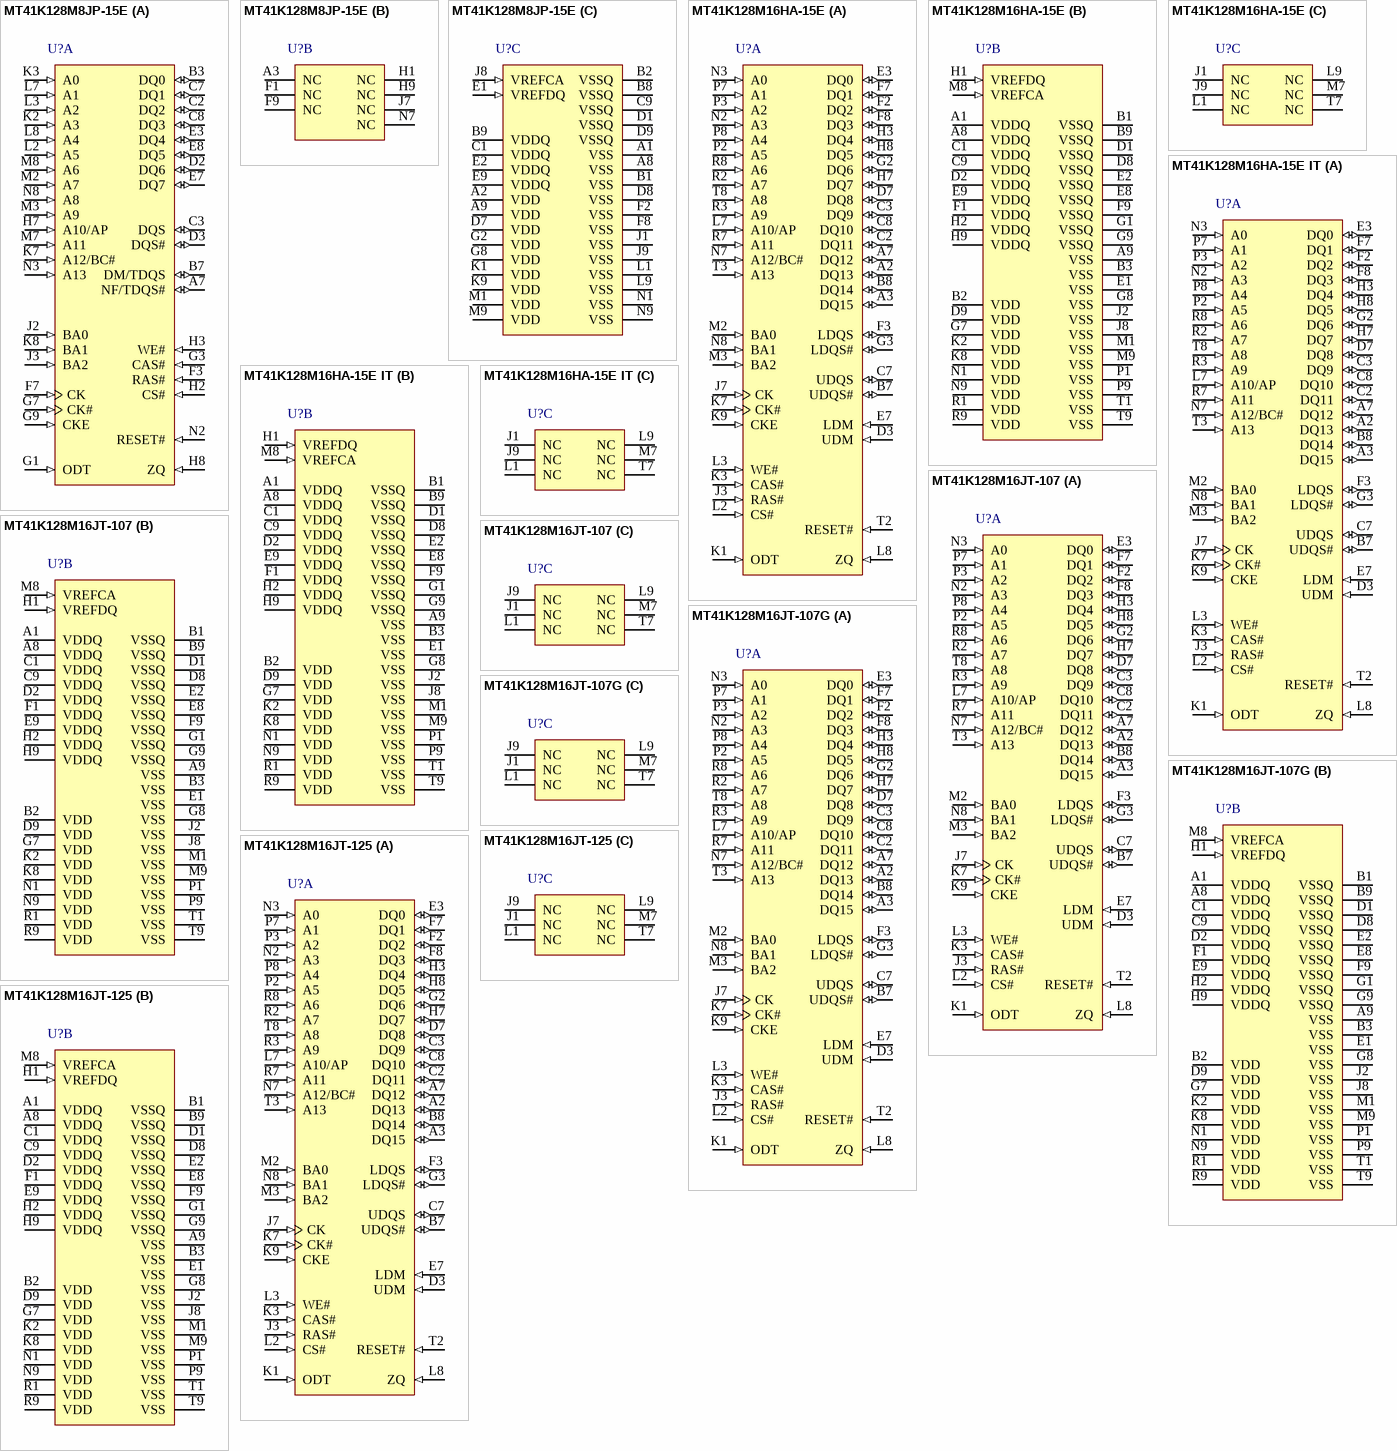
[diagram p11: symbols MT41K128M8JP-15E to MT41K128M16JT-125]